# Altium schematic symbol library 846-XXXXX_SCH_projectname.SchLib: 1 symbol
Pins are listed as number, name and electrical type; pins without a type are passive.

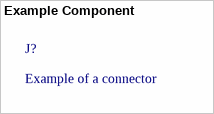
[diagram p0: symbol Example Component]

## Example Component
designator J?, comment Example of a connector
This Example has the min. Parameters for any conector; Internal Part Number: XXX-XXXXX-XX; Manufacturer: *; Manufacturer Part Number: *; Supplier 1: *; Supplier Part Number 1: *; System: connector; ComponentLink1Description: Datasheet; ComponentLink1URL: *